# Altium schematic symbol library RC0402.SchLib: 789 symbols (part 2 of 11)
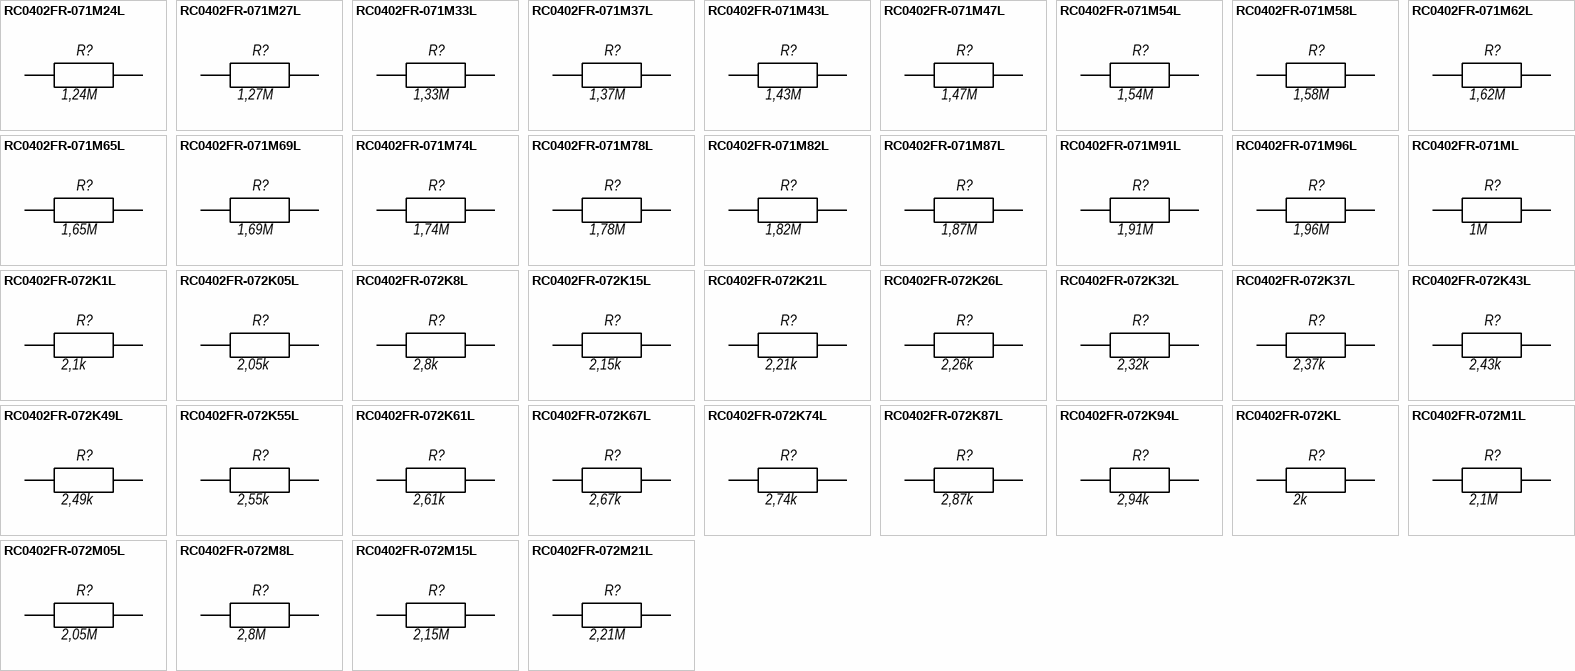
[diagram p20: symbols RC0402FR-071M24L to RC0402FR-072M21L]

## RC0402FR-072M8L
designator R?, comment 2,8M
RC0402FR-072M8L 0402 2.8 MOhm ±1% 1/16W 0402 SMD -55C...+155C; Manufacturer: Yageo; BOM2: 2,8 МОм ±1%, 1/16 Вт, SMD 0402, RC0402FR-072M8L; ValueBOM: RC0402FR-072M8L   Yageo                            (2,8 МОм ±1%, 1/16 Вт, SMD 0402, RC0402FR-072M8L); Value: 2,8M; Part Number: RC0402FR-072M8L; Package: 0402; BOM1: 2.8 MOhm ±1% 1/16W 0402 SMD
footprint RESC_0402_1005L (Chip Resistor, Body 1.1x0.5mm, IPC High Density)
footprint RESC_0402_1005M (Chip Resistor, Body 1.1x0.5mm, IPC Low Density)
footprint RESC_0402_1005N (Chip Resistor, Body 1.1x0.5mm, IPC Medium Density)
pins: 1, 2

## RC0402FR-072M15L
designator R?, comment 2,15M
RC0402FR-072M15L 0402 2.15 MOhm ±1% 1/16W 0402 SMD -55C...+155C; Manufacturer: Yageo; BOM2: 2,15 МОм ±1%, 1/16 Вт, SMD 0402, RC0402FR-072M15L; ValueBOM: RC0402FR-072M15L   Yageo                            (2,15 МОм ±1%, 1/16 Вт, SMD 0402, RC0402FR-072M15L); Value: 2,15M; Part Number: RC0402FR-072M15L; Package: 0402; BOM1: 2.15 MOhm ±1% 1/16W 0402 SMD
footprint RESC_0402_1005L (Chip Resistor, Body 1.1x0.5mm, IPC High Density)
footprint RESC_0402_1005M (Chip Resistor, Body 1.1x0.5mm, IPC Low Density)
footprint RESC_0402_1005N (Chip Resistor, Body 1.1x0.5mm, IPC Medium Density)
pins: 1, 2

## RC0402FR-072M21L
designator R?, comment 2,21M
RC0402FR-072M21L 0402 2.21 MOhm ±1% 1/16W 0402 SMD -55C...+155C; Manufacturer: Yageo; BOM2: 2,21 МОм ±1%, 1/16 Вт, SMD 0402, RC0402FR-072M21L; ValueBOM: RC0402FR-072M21L   Yageo                            (2,21 МОм ±1%, 1/16 Вт, SMD 0402, RC0402FR-072M21L); Value: 2,21M; Part Number: RC0402FR-072M21L; Package: 0402; BOM1: 2.21 MOhm ±1% 1/16W 0402 SMD
footprint RESC_0402_1005L (Chip Resistor, Body 1.1x0.5mm, IPC High Density)
footprint RESC_0402_1005M (Chip Resistor, Body 1.1x0.5mm, IPC Low Density)
footprint RESC_0402_1005N (Chip Resistor, Body 1.1x0.5mm, IPC Medium Density)
pins: 1, 2

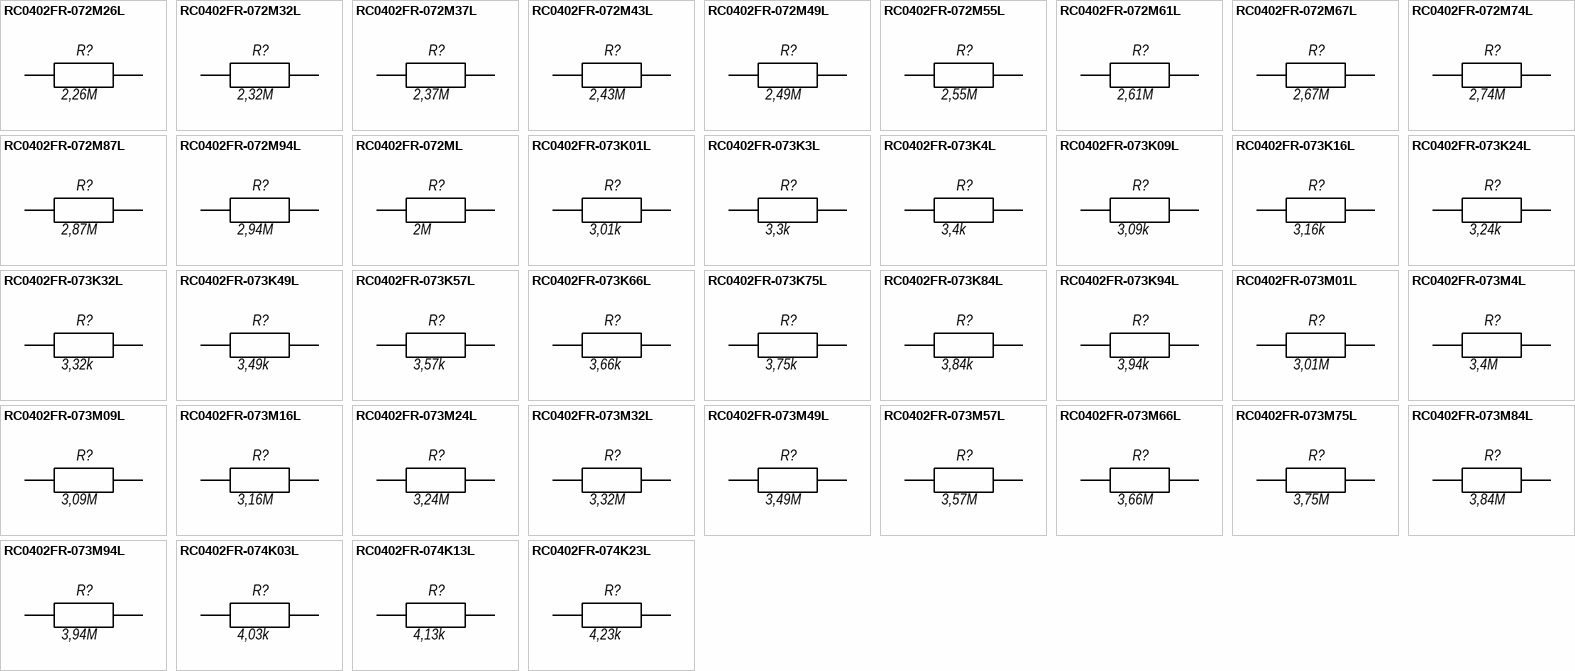
[diagram p2: symbols RC0402FR-072M26L to RC0402FR-074K23L]

## RC0402FR-072M26L
designator R?, comment 2,26M
RC0402FR-072M26L 0402 2.26 MOhm ±1% 1/16W 0402 SMD -55C...+155C; Manufacturer: Yageo; BOM2: 2,26 МОм ±1%, 1/16 Вт, SMD 0402, RC0402FR-072M26L; ValueBOM: RC0402FR-072M26L   Yageo                            (2,26 МОм ±1%, 1/16 Вт, SMD 0402, RC0402FR-072M26L); Value: 2,26M; Part Number: RC0402FR-072M26L; Package: 0402; BOM1: 2.26 MOhm ±1% 1/16W 0402 SMD
footprint RESC_0402_1005L (Chip Resistor, Body 1.1x0.5mm, IPC High Density)
footprint RESC_0402_1005M (Chip Resistor, Body 1.1x0.5mm, IPC Low Density)
footprint RESC_0402_1005N (Chip Resistor, Body 1.1x0.5mm, IPC Medium Density)
pins: 1, 2

## RC0402FR-072M32L
designator R?, comment 2,32M
RC0402FR-072M32L 0402 2.32 MOhm ±1% 1/16W 0402 SMD -55C...+155C; Manufacturer: Yageo; BOM2: 2,32 МОм ±1%, 1/16 Вт, SMD 0402, RC0402FR-072M32L; ValueBOM: RC0402FR-072M32L   Yageo                            (2,32 МОм ±1%, 1/16 Вт, SMD 0402, RC0402FR-072M32L); Value: 2,32M; Part Number: RC0402FR-072M32L; Package: 0402; BOM1: 2.32 MOhm ±1% 1/16W 0402 SMD
footprint RESC_0402_1005L (Chip Resistor, Body 1.1x0.5mm, IPC High Density)
footprint RESC_0402_1005M (Chip Resistor, Body 1.1x0.5mm, IPC Low Density)
footprint RESC_0402_1005N (Chip Resistor, Body 1.1x0.5mm, IPC Medium Density)
pins: 1, 2

## RC0402FR-072M37L
designator R?, comment 2,37M
RC0402FR-072M37L 0402 2.37 MOhm ±1% 1/16W 0402 SMD -55C...+155C; Manufacturer: Yageo; BOM2: 2,37 МОм ±1%, 1/16 Вт, SMD 0402, RC0402FR-072M37L; ValueBOM: RC0402FR-072M37L   Yageo                            (2,37 МОм ±1%, 1/16 Вт, SMD 0402, RC0402FR-072M37L); Value: 2,37M; Part Number: RC0402FR-072M37L; Package: 0402; BOM1: 2.37 MOhm ±1% 1/16W 0402 SMD
footprint RESC_0402_1005L (Chip Resistor, Body 1.1x0.5mm, IPC High Density)
footprint RESC_0402_1005M (Chip Resistor, Body 1.1x0.5mm, IPC Low Density)
footprint RESC_0402_1005N (Chip Resistor, Body 1.1x0.5mm, IPC Medium Density)
pins: 1, 2

## RC0402FR-072M43L
designator R?, comment 2,43M
RC0402FR-072M43L 0402 2.43 MOhm ±1% 1/16W 0402 SMD -55C...+155C; Manufacturer: Yageo; BOM2: 2,43 МОм ±1%, 1/16 Вт, SMD 0402, RC0402FR-072M43L; ValueBOM: RC0402FR-072M43L   Yageo                            (2,43 МОм ±1%, 1/16 Вт, SMD 0402, RC0402FR-072M43L); Value: 2,43M; Part Number: RC0402FR-072M43L; Package: 0402; BOM1: 2.43 MOhm ±1% 1/16W 0402 SMD
footprint RESC_0402_1005L (Chip Resistor, Body 1.1x0.5mm, IPC High Density)
footprint RESC_0402_1005M (Chip Resistor, Body 1.1x0.5mm, IPC Low Density)
footprint RESC_0402_1005N (Chip Resistor, Body 1.1x0.5mm, IPC Medium Density)
pins: 1, 2

## RC0402FR-072M49L
designator R?, comment 2,49M
RC0402FR-072M49L 0402 2.49 MOhm ±1% 1/16W 0402 SMD -55C...+155C; Manufacturer: Yageo; BOM2: 2,49 МОм ±1%, 1/16 Вт, SMD 0402, RC0402FR-072M49L; ValueBOM: RC0402FR-072M49L   Yageo                            (2,49 МОм ±1%, 1/16 Вт, SMD 0402, RC0402FR-072M49L); Value: 2,49M; Part Number: RC0402FR-072M49L; Package: 0402; BOM1: 2.49 MOhm ±1% 1/16W 0402 SMD
footprint RESC_0402_1005L (Chip Resistor, Body 1.1x0.5mm, IPC High Density)
footprint RESC_0402_1005M (Chip Resistor, Body 1.1x0.5mm, IPC Low Density)
footprint RESC_0402_1005N (Chip Resistor, Body 1.1x0.5mm, IPC Medium Density)
pins: 1, 2

## RC0402FR-072M55L
designator R?, comment 2,55M
RC0402FR-072M55L 0402 2.55 MOhm ±1% 1/16W 0402 SMD -55C...+155C; Manufacturer: Yageo; BOM2: 2,55 МОм ±1%, 1/16 Вт, SMD 0402, RC0402FR-072M55L; ValueBOM: RC0402FR-072M55L   Yageo                            (2,55 МОм ±1%, 1/16 Вт, SMD 0402, RC0402FR-072M55L); Value: 2,55M; Part Number: RC0402FR-072M55L; Package: 0402; BOM1: 2.55 MOhm ±1% 1/16W 0402 SMD
footprint RESC_0402_1005L (Chip Resistor, Body 1.1x0.5mm, IPC High Density)
footprint RESC_0402_1005M (Chip Resistor, Body 1.1x0.5mm, IPC Low Density)
footprint RESC_0402_1005N (Chip Resistor, Body 1.1x0.5mm, IPC Medium Density)
pins: 1, 2

## RC0402FR-072M61L
designator R?, comment 2,61M
RC0402FR-072M61L 0402 2.61 MOhm ±1% 1/16W 0402 SMD -55C...+155C; Manufacturer: Yageo; BOM2: 2,61 МОм ±1%, 1/16 Вт, SMD 0402, RC0402FR-072M61L; ValueBOM: RC0402FR-072M61L   Yageo                            (2,61 МОм ±1%, 1/16 Вт, SMD 0402, RC0402FR-072M61L); Value: 2,61M; Part Number: RC0402FR-072M61L; Package: 0402; BOM1: 2.61 MOhm ±1% 1/16W 0402 SMD
footprint RESC_0402_1005L (Chip Resistor, Body 1.1x0.5mm, IPC High Density)
footprint RESC_0402_1005M (Chip Resistor, Body 1.1x0.5mm, IPC Low Density)
footprint RESC_0402_1005N (Chip Resistor, Body 1.1x0.5mm, IPC Medium Density)
pins: 1, 2

## RC0402FR-072M67L
designator R?, comment 2,67M
RC0402FR-072M67L 0402 2.67 MOhm ±1% 1/16W 0402 SMD -55C...+155C; Manufacturer: Yageo; BOM2: 2,67 МОм ±1%, 1/16 Вт, SMD 0402, RC0402FR-072M67L; ValueBOM: RC0402FR-072M67L   Yageo                            (2,67 МОм ±1%, 1/16 Вт, SMD 0402, RC0402FR-072M67L); Value: 2,67M; Part Number: RC0402FR-072M67L; Package: 0402; BOM1: 2.67 MOhm ±1% 1/16W 0402 SMD
footprint RESC_0402_1005L (Chip Resistor, Body 1.1x0.5mm, IPC High Density)
footprint RESC_0402_1005M (Chip Resistor, Body 1.1x0.5mm, IPC Low Density)
footprint RESC_0402_1005N (Chip Resistor, Body 1.1x0.5mm, IPC Medium Density)
pins: 1, 2

## RC0402FR-072M74L
designator R?, comment 2,74M
RC0402FR-072M74L 0402 2.74 MOhm ±1% 1/16W 0402 SMD -55C...+155C; Manufacturer: Yageo; BOM2: 2,74 МОм ±1%, 1/16 Вт, SMD 0402, RC0402FR-072M74L; ValueBOM: RC0402FR-072M74L   Yageo                            (2,74 МОм ±1%, 1/16 Вт, SMD 0402, RC0402FR-072M74L); Value: 2,74M; Part Number: RC0402FR-072M74L; Package: 0402; BOM1: 2.74 MOhm ±1% 1/16W 0402 SMD
footprint RESC_0402_1005L (Chip Resistor, Body 1.1x0.5mm, IPC High Density)
footprint RESC_0402_1005M (Chip Resistor, Body 1.1x0.5mm, IPC Low Density)
footprint RESC_0402_1005N (Chip Resistor, Body 1.1x0.5mm, IPC Medium Density)
pins: 1, 2

## RC0402FR-072M87L
designator R?, comment 2,87M
RC0402FR-072M87L 0402 2.87 MOhm ±1% 1/16W 0402 SMD -55C...+155C; Manufacturer: Yageo; BOM2: 2,87 МОм ±1%, 1/16 Вт, SMD 0402, RC0402FR-072M87L; ValueBOM: RC0402FR-072M87L   Yageo                            (2,87 МОм ±1%, 1/16 Вт, SMD 0402, RC0402FR-072M87L); Value: 2,87M; Part Number: RC0402FR-072M87L; Package: 0402; BOM1: 2.87 MOhm ±1% 1/16W 0402 SMD
footprint RESC_0402_1005L (Chip Resistor, Body 1.1x0.5mm, IPC High Density)
footprint RESC_0402_1005M (Chip Resistor, Body 1.1x0.5mm, IPC Low Density)
footprint RESC_0402_1005N (Chip Resistor, Body 1.1x0.5mm, IPC Medium Density)
pins: 1, 2

## RC0402FR-072M94L
designator R?, comment 2,94M
RC0402FR-072M94L 0402 2.94 MOhm ±1% 1/16W 0402 SMD -55C...+155C; Manufacturer: Yageo; BOM2: 2,94 МОм ±1%, 1/16 Вт, SMD 0402, RC0402FR-072M94L; ValueBOM: RC0402FR-072M94L   Yageo                            (2,94 МОм ±1%, 1/16 Вт, SMD 0402, RC0402FR-072M94L); Value: 2,94M; Part Number: RC0402FR-072M94L; Package: 0402; BOM1: 2.94 MOhm ±1% 1/16W 0402 SMD
footprint RESC_0402_1005L (Chip Resistor, Body 1.1x0.5mm, IPC High Density)
footprint RESC_0402_1005M (Chip Resistor, Body 1.1x0.5mm, IPC Low Density)
footprint RESC_0402_1005N (Chip Resistor, Body 1.1x0.5mm, IPC Medium Density)
pins: 1, 2

## RC0402FR-072ML
designator R?, comment 2M
RC0402FR-072ML 0402 2 MOhm ±1% 1/16W 0402 SMD -55C...+155C; Manufacturer: Yageo; BOM2: 2 MОм ±1%, 1/16 Вт, SMD 0402, RC0402FR-072ML; ValueBOM: RC0402FR-072ML   Yageo                            (2 MОм ±1%, 1/16 Вт, SMD 0402, RC0402FR-072ML); Value: 2M; Part Number: RC0402FR-072ML; Package: 0402; BOM1: 2 MOhm ±1% 1/16W 0402 SMD
footprint RESC_0402_1005L (Chip Resistor, Body 1.1x0.5mm, IPC High Density)
footprint RESC_0402_1005M (Chip Resistor, Body 1.1x0.5mm, IPC Low Density)
footprint RESC_0402_1005N (Chip Resistor, Body 1.1x0.5mm, IPC Medium Density)
pins: 1, 2

## RC0402FR-073K01L
designator R?, comment 3,01k
RC0402FR-073K01L 0402 3.01 kOhm ±1% 1/16W 0402 SMD -55C...+155C; Manufacturer: Yageo; BOM2: 3,01 кОм ±1%, 1/16 Вт, SMD 0402, RC0402FR-073K01L; ValueBOM: RC0402FR-073K01L   Yageo                            (3,01 кОм ±1%, 1/16 Вт, SMD 0402, RC0402FR-073K01L); Value: 3,01k; Part Number: RC0402FR-073K01L; Package: 0402; BOM1: 3.01 kOhm ±1% 1/16W 0402 SMD
footprint RESC_0402_1005L (Chip Resistor, Body 1.1x0.5mm, IPC High Density)
footprint RESC_0402_1005M (Chip Resistor, Body 1.1x0.5mm, IPC Low Density)
footprint RESC_0402_1005N (Chip Resistor, Body 1.1x0.5mm, IPC Medium Density)
pins: 1, 2

## RC0402FR-073K3L
designator R?, comment 3,3k
RC0402FR-073K3L 0805 3.3 kOhm ±1% 1/16W -55C...+155C; Manufacturer: Yageo; BOM1: 3.3 kOhm ±1% 1/16W 0402 SMD; BOM2: 3,3 кОм ±1%, 1/16 Вт, SMD 0402, RC0402FR-073K3L; ValueBOM: RC0402FR-073K3L   Yageo                            (3,3 кОм ±1%, 1/16 Вт, SMD 0402, RC0402FR-073K3L); Value: 3,3k; Part Number: RC0402FR-073K3L; Package: 0402
footprint RESC_0402_1005L (Chip Resistor, Body 1.1x0.5mm, IPC High Density)
footprint RESC_0402_1005M (Chip Resistor, Body 1.1x0.5mm, IPC Low Density)
footprint RESC_0402_1005N (Chip Resistor, Body 1.1x0.5mm, IPC Medium Density)
pins: 1, 2

## RC0402FR-073K4L
designator R?, comment 3,4k
RC0402FR-073K4L 0402 3.4 kOhm ±1% 1/16W 0402 SMD -55C...+155C; Manufacturer: Yageo; BOM2: 3,4 кОм ±1%, 1/16 Вт, SMD 0402, RC0402FR-073K4L; ValueBOM: RC0402FR-073K4L   Yageo                            (3,4 кОм ±1%, 1/16 Вт, SMD 0402, RC0402FR-073K4L); Value: 3,4k; Part Number: RC0402FR-073K4L; Package: 0402; BOM1: 3.4 kOhm ±1% 1/16W 0402 SMD
footprint RESC_0402_1005L (Chip Resistor, Body 1.1x0.5mm, IPC High Density)
footprint RESC_0402_1005M (Chip Resistor, Body 1.1x0.5mm, IPC Low Density)
footprint RESC_0402_1005N (Chip Resistor, Body 1.1x0.5mm, IPC Medium Density)
pins: 1, 2

## RC0402FR-073K09L
designator R?, comment 3,09k
RC0402FR-073K09L 0402 3.09 kOhm ±1% 1/16W 0402 SMD -55C...+155C; Manufacturer: Yageo; BOM2: 3,09 кОм ±1%, 1/16 Вт, SMD 0402, RC0402FR-073K09L; ValueBOM: RC0402FR-073K09L   Yageo                            (3,09 кОм ±1%, 1/16 Вт, SMD 0402, RC0402FR-073K09L); Value: 3,09k; Part Number: RC0402FR-073K09L; Package: 0402; BOM1: 3.09 kOhm ±1% 1/16W 0402 SMD
footprint RESC_0402_1005L (Chip Resistor, Body 1.1x0.5mm, IPC High Density)
footprint RESC_0402_1005M (Chip Resistor, Body 1.1x0.5mm, IPC Low Density)
footprint RESC_0402_1005N (Chip Resistor, Body 1.1x0.5mm, IPC Medium Density)
pins: 1, 2

## RC0402FR-073K16L
designator R?, comment 3,16k
RC0402FR-073K16L 0402 3.16 kOhm ±1% 1/16W 0402 SMD -55C...+155C; Manufacturer: Yageo; BOM2: 3,16 кОм ±1%, 1/16 Вт, SMD 0402, RC0402FR-073K16L; ValueBOM: RC0402FR-073K16L   Yageo                            (3,16 кОм ±1%, 1/16 Вт, SMD 0402, RC0402FR-073K16L); Value: 3,16k; Part Number: RC0402FR-073K16L; Package: 0402; BOM1: 3.16 kOhm ±1% 1/16W 0402 SMD
footprint RESC_0402_1005L (Chip Resistor, Body 1.1x0.5mm, IPC High Density)
footprint RESC_0402_1005M (Chip Resistor, Body 1.1x0.5mm, IPC Low Density)
footprint RESC_0402_1005N (Chip Resistor, Body 1.1x0.5mm, IPC Medium Density)
pins: 1, 2

## RC0402FR-073K24L
designator R?, comment 3,24k
RC0402FR-073K24L 0402 3.24 kOhm ±1% 1/16W 0402 SMD -55C...+155C; Manufacturer: Yageo; BOM2: 3,24 кОм ±1%, 1/16 Вт, SMD 0402, RC0402FR-073K24L; ValueBOM: RC0402FR-073K24L   Yageo                            (3,24 кОм ±1%, 1/16 Вт, SMD 0402, RC0402FR-073K24L); Value: 3,24k; Part Number: RC0402FR-073K24L; Package: 0402; BOM1: 3.24 kOhm ±1% 1/16W 0402 SMD
footprint RESC_0402_1005L (Chip Resistor, Body 1.1x0.5mm, IPC High Density)
footprint RESC_0402_1005M (Chip Resistor, Body 1.1x0.5mm, IPC Low Density)
footprint RESC_0402_1005N (Chip Resistor, Body 1.1x0.5mm, IPC Medium Density)
pins: 1, 2

## RC0402FR-073K32L
designator R?, comment 3,32k
RC0402FR-073K32L 0402 3.32 kOhm ±1% 1/16W 0402 SMD -55C...+155C; Manufacturer: Yageo; BOM2: 3,32 кОм ±1%, 1/16 Вт, SMD 0402, RC0402FR-073K32L; ValueBOM: RC0402FR-073K32L   Yageo                            (3,32 кОм ±1%, 1/16 Вт, SMD 0402, RC0402FR-073K32L); Value: 3,32k; Part Number: RC0402FR-073K32L; Package: 0402; BOM1: 3.32 kOhm ±1% 1/16W 0402 SMD
footprint RESC_0402_1005L (Chip Resistor, Body 1.1x0.5mm, IPC High Density)
footprint RESC_0402_1005M (Chip Resistor, Body 1.1x0.5mm, IPC Low Density)
footprint RESC_0402_1005N (Chip Resistor, Body 1.1x0.5mm, IPC Medium Density)
pins: 1, 2

## RC0402FR-073K49L
designator R?, comment 3,49k
RC0402FR-073K49L 0402 3.49 kOhm ±1% 1/16W 0402 SMD -55C...+155C; Manufacturer: Yageo; BOM2: 3,49 кОм ±1%, 1/16 Вт, SMD 0402, RC0402FR-073K49L; ValueBOM: RC0402FR-073K49L   Yageo                            (3,49 кОм ±1%, 1/16 Вт, SMD 0402, RC0402FR-073K49L); Value: 3,49k; Part Number: RC0402FR-073K49L; Package: 0402; BOM1: 3.49 kOhm ±1% 1/16W 0402 SMD
footprint RESC_0402_1005L (Chip Resistor, Body 1.1x0.5mm, IPC High Density)
footprint RESC_0402_1005M (Chip Resistor, Body 1.1x0.5mm, IPC Low Density)
footprint RESC_0402_1005N (Chip Resistor, Body 1.1x0.5mm, IPC Medium Density)
pins: 1, 2

## RC0402FR-073K57L
designator R?, comment 3,57k
RC0402FR-073K57L 0402 3.57 kOhm ±1% 1/16W 0402 SMD -55C...+155C; Manufacturer: Yageo; BOM2: 3,57 кОм ±1%, 1/16 Вт, SMD 0402, RC0402FR-073K57L; ValueBOM: RC0402FR-073K57L   Yageo                            (3,57 кОм ±1%, 1/16 Вт, SMD 0402, RC0402FR-073K57L); Value: 3,57k; Part Number: RC0402FR-073K57L; Package: 0402; BOM1: 3.57 kOhm ±1% 1/16W 0402 SMD
footprint RESC_0402_1005L (Chip Resistor, Body 1.1x0.5mm, IPC High Density)
footprint RESC_0402_1005M (Chip Resistor, Body 1.1x0.5mm, IPC Low Density)
footprint RESC_0402_1005N (Chip Resistor, Body 1.1x0.5mm, IPC Medium Density)
pins: 1, 2

## RC0402FR-073K66L
designator R?, comment 3,66k
RC0402FR-073K66L 0402 3.66 kOhm ±1% 1/16W 0402 SMD -55C...+155C; Manufacturer: Yageo; BOM2: 3,66 кОм ±1%, 1/16 Вт, SMD 0402, RC0402FR-073K66L; ValueBOM: RC0402FR-073K66L   Yageo                            (3,66 кОм ±1%, 1/16 Вт, SMD 0402, RC0402FR-073K66L); Value: 3,66k; Part Number: RC0402FR-073K66L; Package: 0402; BOM1: 3.66 kOhm ±1% 1/16W 0402 SMD
footprint RESC_0402_1005L (Chip Resistor, Body 1.1x0.5mm, IPC High Density)
footprint RESC_0402_1005M (Chip Resistor, Body 1.1x0.5mm, IPC Low Density)
footprint RESC_0402_1005N (Chip Resistor, Body 1.1x0.5mm, IPC Medium Density)
pins: 1, 2

## RC0402FR-073K75L
designator R?, comment 3,75k
RC0402FR-073K75L 0402 3.75 kOhm ±1% 1/16W 0402 SMD -55C...+155C; Manufacturer: Yageo; BOM2: 3,75 кОм ±1%, 1/16 Вт, SMD 0402, RC0402FR-073K75L; ValueBOM: RC0402FR-073K75L   Yageo                            (3,75 кОм ±1%, 1/16 Вт, SMD 0402, RC0402FR-073K75L); Value: 3,75k; Part Number: RC0402FR-073K75L; Package: 0402; BOM1: 3.75 kOhm ±1% 1/16W 0402 SMD
footprint RESC_0402_1005L (Chip Resistor, Body 1.1x0.5mm, IPC High Density)
footprint RESC_0402_1005M (Chip Resistor, Body 1.1x0.5mm, IPC Low Density)
footprint RESC_0402_1005N (Chip Resistor, Body 1.1x0.5mm, IPC Medium Density)
pins: 1, 2

## RC0402FR-073K84L
designator R?, comment 3,84k
RC0402FR-073K84L 0402 3.84 kOhm ±1% 1/16W 0402 SMD -55C...+155C; Manufacturer: Yageo; BOM2: 3,84 кОм ±1%, 1/16 Вт, SMD 0402, RC0402FR-073K84L; ValueBOM: RC0402FR-073K84L   Yageo                            (3,84 кОм ±1%, 1/16 Вт, SMD 0402, RC0402FR-073K84L); Value: 3,84k; Part Number: RC0402FR-073K84L; Package: 0402; BOM1: 3.84 kOhm ±1% 1/16W 0402 SMD
footprint RESC_0402_1005L (Chip Resistor, Body 1.1x0.5mm, IPC High Density)
footprint RESC_0402_1005M (Chip Resistor, Body 1.1x0.5mm, IPC Low Density)
footprint RESC_0402_1005N (Chip Resistor, Body 1.1x0.5mm, IPC Medium Density)
pins: 1, 2

## RC0402FR-073K94L
designator R?, comment 3,94k
RC0402FR-073K94L 0402 3.94 kOhm ±1% 1/16W 0402 SMD -55C...+155C; Manufacturer: Yageo; BOM2: 3,94 кОм ±1%, 1/16 Вт, SMD 0402, RC0402FR-073K94L; ValueBOM: RC0402FR-073K94L   Yageo                            (3,94 кОм ±1%, 1/16 Вт, SMD 0402, RC0402FR-073K94L); Value: 3,94k; Part Number: RC0402FR-073K94L; Package: 0402; BOM1: 3.94 kOhm ±1% 1/16W 0402 SMD
footprint RESC_0402_1005L (Chip Resistor, Body 1.1x0.5mm, IPC High Density)
footprint RESC_0402_1005M (Chip Resistor, Body 1.1x0.5mm, IPC Low Density)
footprint RESC_0402_1005N (Chip Resistor, Body 1.1x0.5mm, IPC Medium Density)
pins: 1, 2

## RC0402FR-073M01L
designator R?, comment 3,01M
RC0402FR-073M01L 0402 3.01 MOhm ±1% 1/16W 0402 SMD -55C...+155C; Manufacturer: Yageo; BOM2: 3,01 МОм ±1%, 1/16 Вт, SMD 0402, RC0402FR-073M01L; ValueBOM: RC0402FR-073M01L   Yageo                            (3,01 МОм ±1%, 1/16 Вт, SMD 0402, RC0402FR-073M01L); Value: 3,01M; Part Number: RC0402FR-073M01L; Package: 0402; BOM1: 3.01 MOhm ±1% 1/16W 0402 SMD
footprint RESC_0402_1005L (Chip Resistor, Body 1.1x0.5mm, IPC High Density)
footprint RESC_0402_1005M (Chip Resistor, Body 1.1x0.5mm, IPC Low Density)
footprint RESC_0402_1005N (Chip Resistor, Body 1.1x0.5mm, IPC Medium Density)
pins: 1, 2

## RC0402FR-073M4L
designator R?, comment 3,4M
RC0402FR-073M4L 0402 3.4 MOhm ±1% 1/16W 0402 SMD -55C...+155C; Manufacturer: Yageo; BOM2: 3,4 МОм ±1%, 1/16 Вт, SMD 0402, RC0402FR-073M4L; ValueBOM: RC0402FR-073M4L   Yageo                            (3,4 МОм ±1%, 1/16 Вт, SMD 0402, RC0402FR-073M4L); Value: 3,4M; Part Number: RC0402FR-073M4L; Package: 0402; BOM1: 3.4 MOhm ±1% 1/16W 0402 SMD
footprint RESC_0402_1005L (Chip Resistor, Body 1.1x0.5mm, IPC High Density)
footprint RESC_0402_1005M (Chip Resistor, Body 1.1x0.5mm, IPC Low Density)
footprint RESC_0402_1005N (Chip Resistor, Body 1.1x0.5mm, IPC Medium Density)
pins: 1, 2

## RC0402FR-073M09L
designator R?, comment 3,09M
RC0402FR-073M09L 0402 3.09 MOhm ±1% 1/16W 0402 SMD -55C...+155C; Manufacturer: Yageo; BOM2: 3,09 МОм ±1%, 1/16 Вт, SMD 0402, RC0402FR-073M09L; ValueBOM: RC0402FR-073M09L   Yageo                            (3,09 МОм ±1%, 1/16 Вт, SMD 0402, RC0402FR-073M09L); Value: 3,09M; Part Number: RC0402FR-073M09L; Package: 0402; BOM1: 3.09 MOhm ±1% 1/16W 0402 SMD
footprint RESC_0402_1005L (Chip Resistor, Body 1.1x0.5mm, IPC High Density)
footprint RESC_0402_1005M (Chip Resistor, Body 1.1x0.5mm, IPC Low Density)
footprint RESC_0402_1005N (Chip Resistor, Body 1.1x0.5mm, IPC Medium Density)
pins: 1, 2

## RC0402FR-073M16L
designator R?, comment 3,16M
RC0402FR-073M16L 0402 3.16 MOhm ±1% 1/16W 0402 SMD -55C...+155C; Manufacturer: Yageo; BOM2: 3,16 МОм ±1%, 1/16 Вт, SMD 0402, RC0402FR-073M16L; ValueBOM: RC0402FR-073M16L   Yageo                            (3,16 МОм ±1%, 1/16 Вт, SMD 0402, RC0402FR-073M16L); Value: 3,16M; Part Number: RC0402FR-073M16L; Package: 0402; BOM1: 3.16 MOhm ±1% 1/16W 0402 SMD
footprint RESC_0402_1005L (Chip Resistor, Body 1.1x0.5mm, IPC High Density)
footprint RESC_0402_1005M (Chip Resistor, Body 1.1x0.5mm, IPC Low Density)
footprint RESC_0402_1005N (Chip Resistor, Body 1.1x0.5mm, IPC Medium Density)
pins: 1, 2

## RC0402FR-073M24L
designator R?, comment 3,24M
RC0402FR-073M24L 0402 3.24 MOhm ±1% 1/16W 0402 SMD -55C...+155C; Manufacturer: Yageo; BOM2: 3,24 МОм ±1%, 1/16 Вт, SMD 0402, RC0402FR-073M24L; ValueBOM: RC0402FR-073M24L   Yageo                            (3,24 МОм ±1%, 1/16 Вт, SMD 0402, RC0402FR-073M24L); Value: 3,24M; Part Number: RC0402FR-073M24L; Package: 0402; BOM1: 3.24 MOhm ±1% 1/16W 0402 SMD
footprint RESC_0402_1005L (Chip Resistor, Body 1.1x0.5mm, IPC High Density)
footprint RESC_0402_1005M (Chip Resistor, Body 1.1x0.5mm, IPC Low Density)
footprint RESC_0402_1005N (Chip Resistor, Body 1.1x0.5mm, IPC Medium Density)
pins: 1, 2

## RC0402FR-073M32L
designator R?, comment 3,32M
RC0402FR-073M32L 0402 3.32 MOhm ±1% 1/16W 0402 SMD -55C...+155C; Manufacturer: Yageo; BOM2: 3,32 МОм ±1%, 1/16 Вт, SMD 0402, RC0402FR-073M32L; ValueBOM: RC0402FR-073M32L   Yageo                            (3,32 МОм ±1%, 1/16 Вт, SMD 0402, RC0402FR-073M32L); Value: 3,32M; Part Number: RC0402FR-073M32L; Package: 0402; BOM1: 3.32 MOhm ±1% 1/16W 0402 SMD
footprint RESC_0402_1005L (Chip Resistor, Body 1.1x0.5mm, IPC High Density)
footprint RESC_0402_1005M (Chip Resistor, Body 1.1x0.5mm, IPC Low Density)
footprint RESC_0402_1005N (Chip Resistor, Body 1.1x0.5mm, IPC Medium Density)
pins: 1, 2

## RC0402FR-073M49L
designator R?, comment 3,49M
RC0402FR-073M49L 0402 3.49 MOhm ±1% 1/16W 0402 SMD -55C...+155C; Manufacturer: Yageo; BOM2: 3,49 МОм ±1%, 1/16 Вт, SMD 0402, RC0402FR-073M49L; ValueBOM: RC0402FR-073M49L   Yageo                            (3,49 МОм ±1%, 1/16 Вт, SMD 0402, RC0402FR-073M49L); Value: 3,49M; Part Number: RC0402FR-073M49L; Package: 0402; BOM1: 3.49 MOhm ±1% 1/16W 0402 SMD
footprint RESC_0402_1005L (Chip Resistor, Body 1.1x0.5mm, IPC High Density)
footprint RESC_0402_1005M (Chip Resistor, Body 1.1x0.5mm, IPC Low Density)
footprint RESC_0402_1005N (Chip Resistor, Body 1.1x0.5mm, IPC Medium Density)
pins: 1, 2

## RC0402FR-073M57L
designator R?, comment 3,57M
RC0402FR-073M57L 0402 3.57 MOhm ±1% 1/16W 0402 SMD -55C...+155C; Manufacturer: Yageo; BOM2: 3,57 МОм ±1%, 1/16 Вт, SMD 0402, RC0402FR-073M57L; ValueBOM: RC0402FR-073M57L   Yageo                            (3,57 МОм ±1%, 1/16 Вт, SMD 0402, RC0402FR-073M57L); Value: 3,57M; Part Number: RC0402FR-073M57L; Package: 0402; BOM1: 3.57 MOhm ±1% 1/16W 0402 SMD
footprint RESC_0402_1005L (Chip Resistor, Body 1.1x0.5mm, IPC High Density)
footprint RESC_0402_1005M (Chip Resistor, Body 1.1x0.5mm, IPC Low Density)
footprint RESC_0402_1005N (Chip Resistor, Body 1.1x0.5mm, IPC Medium Density)
pins: 1, 2

## RC0402FR-073M66L
designator R?, comment 3,66M
RC0402FR-073M66L 0402 3.66 MOhm ±1% 1/16W 0402 SMD -55C...+155C; Manufacturer: Yageo; BOM2: 3,66 МОм ±1%, 1/16 Вт, SMD 0402, RC0402FR-073M66L; ValueBOM: RC0402FR-073M66L   Yageo                            (3,66 МОм ±1%, 1/16 Вт, SMD 0402, RC0402FR-073M66L); Value: 3,66M; Part Number: RC0402FR-073M66L; Package: 0402; BOM1: 3.66 MOhm ±1% 1/16W 0402 SMD
footprint RESC_0402_1005L (Chip Resistor, Body 1.1x0.5mm, IPC High Density)
footprint RESC_0402_1005M (Chip Resistor, Body 1.1x0.5mm, IPC Low Density)
footprint RESC_0402_1005N (Chip Resistor, Body 1.1x0.5mm, IPC Medium Density)
pins: 1, 2

## RC0402FR-073M75L
designator R?, comment 3,75M
RC0402FR-073M75L 0402 3.75 MOhm ±1% 1/16W 0402 SMD -55C...+155C; Manufacturer: Yageo; BOM2: 3,75 МОм ±1%, 1/16 Вт, SMD 0402, RC0402FR-073M75L; ValueBOM: RC0402FR-073M75L   Yageo                            (3,75 МОм ±1%, 1/16 Вт, SMD 0402, RC0402FR-073M75L); Value: 3,75M; Part Number: RC0402FR-073M75L; Package: 0402; BOM1: 3.75 MOhm ±1% 1/16W 0402 SMD
footprint RESC_0402_1005L (Chip Resistor, Body 1.1x0.5mm, IPC High Density)
footprint RESC_0402_1005M (Chip Resistor, Body 1.1x0.5mm, IPC Low Density)
footprint RESC_0402_1005N (Chip Resistor, Body 1.1x0.5mm, IPC Medium Density)
pins: 1, 2

## RC0402FR-073M84L
designator R?, comment 3,84M
RC0402FR-073M84L 0402 3.84 MOhm ±1% 1/16W 0402 SMD -55C...+155C; Manufacturer: Yageo; BOM2: 3,84 МОм ±1%, 1/16 Вт, SMD 0402, RC0402FR-073M84L; ValueBOM: RC0402FR-073M84L   Yageo                            (3,84 МОм ±1%, 1/16 Вт, SMD 0402, RC0402FR-073M84L); Value: 3,84M; Part Number: RC0402FR-073M84L; Package: 0402; BOM1: 3.84 MOhm ±1% 1/16W 0402 SMD
footprint RESC_0402_1005L (Chip Resistor, Body 1.1x0.5mm, IPC High Density)
footprint RESC_0402_1005M (Chip Resistor, Body 1.1x0.5mm, IPC Low Density)
footprint RESC_0402_1005N (Chip Resistor, Body 1.1x0.5mm, IPC Medium Density)
pins: 1, 2

## RC0402FR-073M94L
designator R?, comment 3,94M
RC0402FR-073M94L 0402 3.94 MOhm ±1% 1/16W 0402 SMD -55C...+155C; Manufacturer: Yageo; BOM2: 3,94 МОм ±1%, 1/16 Вт, SMD 0402, RC0402FR-073M94L; ValueBOM: RC0402FR-073M94L   Yageo                            (3,94 МОм ±1%, 1/16 Вт, SMD 0402, RC0402FR-073M94L); Value: 3,94M; Part Number: RC0402FR-073M94L; Package: 0402; BOM1: 3.94 MOhm ±1% 1/16W 0402 SMD
footprint RESC_0402_1005L (Chip Resistor, Body 1.1x0.5mm, IPC High Density)
footprint RESC_0402_1005M (Chip Resistor, Body 1.1x0.5mm, IPC Low Density)
footprint RESC_0402_1005N (Chip Resistor, Body 1.1x0.5mm, IPC Medium Density)
pins: 1, 2

## RC0402FR-074K03L
designator R?, comment 4,03k
RC0402FR-074K03L 0402 4.03 kOhm ±1% 1/16W 0402 SMD -55C...+155C; Manufacturer: Yageo; BOM2: 4,03 кОм ±1%, 1/16 Вт, SMD 0402, RC0402FR-074K03L; ValueBOM: RC0402FR-074K03L   Yageo                            (4,03 кОм ±1%, 1/16 Вт, SMD 0402, RC0402FR-074K03L); Value: 4,03k; Part Number: RC0402FR-074K03L; Package: 0402; BOM1: 4.03 kOhm ±1% 1/16W 0402 SMD
footprint RESC_0402_1005L (Chip Resistor, Body 1.1x0.5mm, IPC High Density)
footprint RESC_0402_1005M (Chip Resistor, Body 1.1x0.5mm, IPC Low Density)
footprint RESC_0402_1005N (Chip Resistor, Body 1.1x0.5mm, IPC Medium Density)
pins: 1, 2

## RC0402FR-074K13L
designator R?, comment 4,13k
RC0402FR-074K13L 0402 4.13 kOhm ±1% 1/16W 0402 SMD -55C...+155C; Manufacturer: Yageo; BOM2: 4,13 кОм ±1%, 1/16 Вт, SMD 0402, RC0402FR-074K13L; ValueBOM: RC0402FR-074K13L   Yageo                            (4,13 кОм ±1%, 1/16 Вт, SMD 0402, RC0402FR-074K13L); Value: 4,13k; Part Number: RC0402FR-074K13L; Package: 0402; BOM1: 4.13 kOhm ±1% 1/16W 0402 SMD
footprint RESC_0402_1005L (Chip Resistor, Body 1.1x0.5mm, IPC High Density)
footprint RESC_0402_1005M (Chip Resistor, Body 1.1x0.5mm, IPC Low Density)
footprint RESC_0402_1005N (Chip Resistor, Body 1.1x0.5mm, IPC Medium Density)
pins: 1, 2

## RC0402FR-074K23L
designator R?, comment 4,23k
RC0402FR-074K23L 0402 4.23 kOhm ±1% 1/16W 0402 SMD -55C...+155C; Manufacturer: Yageo; BOM2: 4,23 кОм ±1%, 1/16 Вт, SMD 0402, RC0402FR-074K23L; ValueBOM: RC0402FR-074K23L   Yageo                            (4,23 кОм ±1%, 1/16 Вт, SMD 0402, RC0402FR-074K23L); Value: 4,23k; Part Number: RC0402FR-074K23L; Package: 0402; BOM1: 4.23 kOhm ±1% 1/16W 0402 SMD
footprint RESC_0402_1005L (Chip Resistor, Body 1.1x0.5mm, IPC High Density)
footprint RESC_0402_1005M (Chip Resistor, Body 1.1x0.5mm, IPC Low Density)
footprint RESC_0402_1005N (Chip Resistor, Body 1.1x0.5mm, IPC Medium Density)
pins: 1, 2

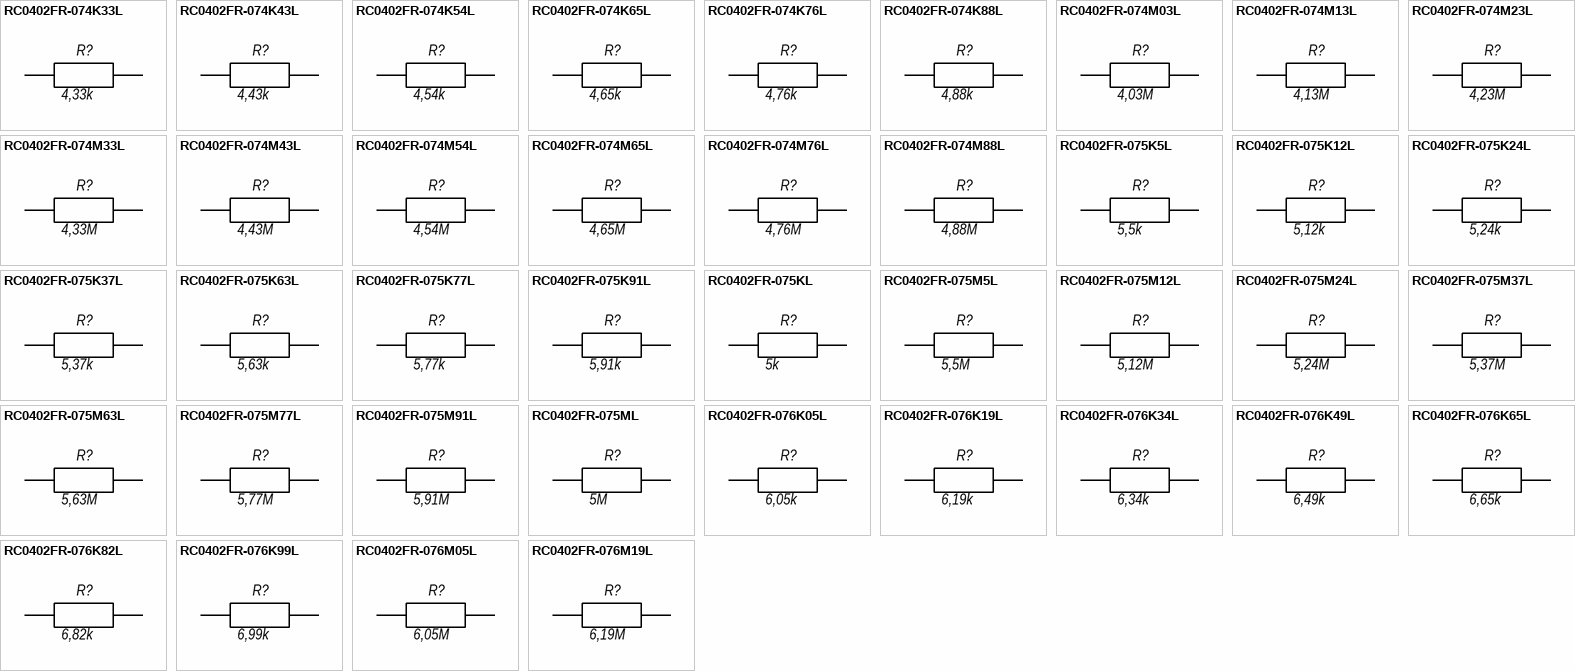
[diagram p3: symbols RC0402FR-074K33L to RC0402FR-076M19L]

## RC0402FR-074K33L
designator R?, comment 4,33k
RC0402FR-074K33L 0402 4.33 kOhm ±1% 1/16W 0402 SMD -55C...+155C; Manufacturer: Yageo; BOM2: 4,33 кОм ±1%, 1/16 Вт, SMD 0402, RC0402FR-074K33L; ValueBOM: RC0402FR-074K33L   Yageo                            (4,33 кОм ±1%, 1/16 Вт, SMD 0402, RC0402FR-074K33L); Value: 4,33k; Part Number: RC0402FR-074K33L; Package: 0402; BOM1: 4.33 kOhm ±1% 1/16W 0402 SMD
footprint RESC_0402_1005L (Chip Resistor, Body 1.1x0.5mm, IPC High Density)
footprint RESC_0402_1005M (Chip Resistor, Body 1.1x0.5mm, IPC Low Density)
footprint RESC_0402_1005N (Chip Resistor, Body 1.1x0.5mm, IPC Medium Density)
pins: 1, 2

## RC0402FR-074K43L
designator R?, comment 4,43k
RC0402FR-074K43L 0402 4.43 kOhm ±1% 1/16W 0402 SMD -55C...+155C; Manufacturer: Yageo; BOM2: 4,43 кОм ±1%, 1/16 Вт, SMD 0402, RC0402FR-074K43L; ValueBOM: RC0402FR-074K43L   Yageo                            (4,43 кОм ±1%, 1/16 Вт, SMD 0402, RC0402FR-074K43L); Value: 4,43k; Part Number: RC0402FR-074K43L; Package: 0402; BOM1: 4.43 kOhm ±1% 1/16W 0402 SMD
footprint RESC_0402_1005L (Chip Resistor, Body 1.1x0.5mm, IPC High Density)
footprint RESC_0402_1005M (Chip Resistor, Body 1.1x0.5mm, IPC Low Density)
footprint RESC_0402_1005N (Chip Resistor, Body 1.1x0.5mm, IPC Medium Density)
pins: 1, 2

## RC0402FR-074K54L
designator R?, comment 4,54k
RC0402FR-074K54L 0402 4.54 kOhm ±1% 1/16W 0402 SMD -55C...+155C; Manufacturer: Yageo; BOM2: 4,54 кОм ±1%, 1/16 Вт, SMD 0402, RC0402FR-074K54L; ValueBOM: RC0402FR-074K54L   Yageo                            (4,54 кОм ±1%, 1/16 Вт, SMD 0402, RC0402FR-074K54L); Value: 4,54k; Part Number: RC0402FR-074K54L; Package: 0402; BOM1: 4.54 kOhm ±1% 1/16W 0402 SMD
footprint RESC_0402_1005L (Chip Resistor, Body 1.1x0.5mm, IPC High Density)
footprint RESC_0402_1005M (Chip Resistor, Body 1.1x0.5mm, IPC Low Density)
footprint RESC_0402_1005N (Chip Resistor, Body 1.1x0.5mm, IPC Medium Density)
pins: 1, 2

## RC0402FR-074K65L
designator R?, comment 4,65k
RC0402FR-074K65L 0402 4.65 kOhm ±1% 1/16W 0402 SMD -55C...+155C; Manufacturer: Yageo; BOM2: 4,65 кОм ±1%, 1/16 Вт, SMD 0402, RC0402FR-074K65L; ValueBOM: RC0402FR-074K65L   Yageo                            (4,65 кОм ±1%, 1/16 Вт, SMD 0402, RC0402FR-074K65L); Value: 4,65k; Part Number: RC0402FR-074K65L; Package: 0402; BOM1: 4.65 kOhm ±1% 1/16W 0402 SMD
footprint RESC_0402_1005L (Chip Resistor, Body 1.1x0.5mm, IPC High Density)
footprint RESC_0402_1005M (Chip Resistor, Body 1.1x0.5mm, IPC Low Density)
footprint RESC_0402_1005N (Chip Resistor, Body 1.1x0.5mm, IPC Medium Density)
pins: 1, 2

## RC0402FR-074K76L
designator R?, comment 4,76k
RC0402FR-074K76L 0402 4.76 kOhm ±1% 1/16W 0402 SMD -55C...+155C; Manufacturer: Yageo; BOM2: 4,76 кОм ±1%, 1/16 Вт, SMD 0402, RC0402FR-074K76L; ValueBOM: RC0402FR-074K76L   Yageo                            (4,76 кОм ±1%, 1/16 Вт, SMD 0402, RC0402FR-074K76L); Value: 4,76k; Part Number: RC0402FR-074K76L; Package: 0402; BOM1: 4.76 kOhm ±1% 1/16W 0402 SMD
footprint RESC_0402_1005L (Chip Resistor, Body 1.1x0.5mm, IPC High Density)
footprint RESC_0402_1005M (Chip Resistor, Body 1.1x0.5mm, IPC Low Density)
footprint RESC_0402_1005N (Chip Resistor, Body 1.1x0.5mm, IPC Medium Density)
pins: 1, 2

## RC0402FR-074K88L
designator R?, comment 4,88k
RC0402FR-074K88L 0402 4.88 kOhm ±1% 1/16W 0402 SMD -55C...+155C; Manufacturer: Yageo; BOM2: 4,88 кОм ±1%, 1/16 Вт, SMD 0402, RC0402FR-074K88L; ValueBOM: RC0402FR-074K88L   Yageo                            (4,88 кОм ±1%, 1/16 Вт, SMD 0402, RC0402FR-074K88L); Value: 4,88k; Part Number: RC0402FR-074K88L; Package: 0402; BOM1: 4.88 kOhm ±1% 1/16W 0402 SMD
footprint RESC_0402_1005L (Chip Resistor, Body 1.1x0.5mm, IPC High Density)
footprint RESC_0402_1005M (Chip Resistor, Body 1.1x0.5mm, IPC Low Density)
footprint RESC_0402_1005N (Chip Resistor, Body 1.1x0.5mm, IPC Medium Density)
pins: 1, 2

## RC0402FR-074M03L
designator R?, comment 4,03M
RC0402FR-074M03L 0402 4.03 MOhm ±1% 1/16W 0402 SMD -55C...+155C; Manufacturer: Yageo; BOM2: 4,03 МОм ±1%, 1/16 Вт, SMD 0402, RC0402FR-074M03L; ValueBOM: RC0402FR-074M03L   Yageo                            (4,03 МОм ±1%, 1/16 Вт, SMD 0402, RC0402FR-074M03L); Value: 4,03M; Part Number: RC0402FR-074M03L; Package: 0402; BOM1: 4.03 MOhm ±1% 1/16W 0402 SMD
footprint RESC_0402_1005L (Chip Resistor, Body 1.1x0.5mm, IPC High Density)
footprint RESC_0402_1005M (Chip Resistor, Body 1.1x0.5mm, IPC Low Density)
footprint RESC_0402_1005N (Chip Resistor, Body 1.1x0.5mm, IPC Medium Density)
pins: 1, 2

## RC0402FR-074M13L
designator R?, comment 4,13M
RC0402FR-074M13L 0402 4.13 MOhm ±1% 1/16W 0402 SMD -55C...+155C; Manufacturer: Yageo; BOM2: 4,13 МОм ±1%, 1/16 Вт, SMD 0402, RC0402FR-074M13L; ValueBOM: RC0402FR-074M13L   Yageo                            (4,13 МОм ±1%, 1/16 Вт, SMD 0402, RC0402FR-074M13L); Value: 4,13M; Part Number: RC0402FR-074M13L; Package: 0402; BOM1: 4.13 MOhm ±1% 1/16W 0402 SMD
footprint RESC_0402_1005L (Chip Resistor, Body 1.1x0.5mm, IPC High Density)
footprint RESC_0402_1005M (Chip Resistor, Body 1.1x0.5mm, IPC Low Density)
footprint RESC_0402_1005N (Chip Resistor, Body 1.1x0.5mm, IPC Medium Density)
pins: 1, 2

## RC0402FR-074M23L
designator R?, comment 4,23M
RC0402FR-074M23L 0402 4.23 MOhm ±1% 1/16W 0402 SMD -55C...+155C; Manufacturer: Yageo; BOM2: 4,23 МОм ±1%, 1/16 Вт, SMD 0402, RC0402FR-074M23L; ValueBOM: RC0402FR-074M23L   Yageo                            (4,23 МОм ±1%, 1/16 Вт, SMD 0402, RC0402FR-074M23L); Value: 4,23M; Part Number: RC0402FR-074M23L; Package: 0402; BOM1: 4.23 MOhm ±1% 1/16W 0402 SMD
footprint RESC_0402_1005L (Chip Resistor, Body 1.1x0.5mm, IPC High Density)
footprint RESC_0402_1005M (Chip Resistor, Body 1.1x0.5mm, IPC Low Density)
footprint RESC_0402_1005N (Chip Resistor, Body 1.1x0.5mm, IPC Medium Density)
pins: 1, 2

## RC0402FR-074M33L
designator R?, comment 4,33M
RC0402FR-074M33L 0402 4.33 MOhm ±1% 1/16W 0402 SMD -55C...+155C; Manufacturer: Yageo; BOM2: 4,33 МОм ±1%, 1/16 Вт, SMD 0402, RC0402FR-074M33L; ValueBOM: RC0402FR-074M33L   Yageo                            (4,33 МОм ±1%, 1/16 Вт, SMD 0402, RC0402FR-074M33L); Value: 4,33M; Part Number: RC0402FR-074M33L; Package: 0402; BOM1: 4.33 MOhm ±1% 1/16W 0402 SMD
footprint RESC_0402_1005L (Chip Resistor, Body 1.1x0.5mm, IPC High Density)
footprint RESC_0402_1005M (Chip Resistor, Body 1.1x0.5mm, IPC Low Density)
footprint RESC_0402_1005N (Chip Resistor, Body 1.1x0.5mm, IPC Medium Density)
pins: 1, 2

## RC0402FR-074M43L
designator R?, comment 4,43M
RC0402FR-074M43L 0402 4.43 MOhm ±1% 1/16W 0402 SMD -55C...+155C; Manufacturer: Yageo; BOM2: 4,43 МОм ±1%, 1/16 Вт, SMD 0402, RC0402FR-074M43L; ValueBOM: RC0402FR-074M43L   Yageo                            (4,43 МОм ±1%, 1/16 Вт, SMD 0402, RC0402FR-074M43L); Value: 4,43M; Part Number: RC0402FR-074M43L; Package: 0402; BOM1: 4.43 MOhm ±1% 1/16W 0402 SMD
footprint RESC_0402_1005L (Chip Resistor, Body 1.1x0.5mm, IPC High Density)
footprint RESC_0402_1005M (Chip Resistor, Body 1.1x0.5mm, IPC Low Density)
footprint RESC_0402_1005N (Chip Resistor, Body 1.1x0.5mm, IPC Medium Density)
pins: 1, 2

## RC0402FR-074M54L
designator R?, comment 4,54M
RC0402FR-074M54L 0402 4.54 MOhm ±1% 1/16W 0402 SMD -55C...+155C; Manufacturer: Yageo; BOM2: 4,54 МОм ±1%, 1/16 Вт, SMD 0402, RC0402FR-074M54L; ValueBOM: RC0402FR-074M54L   Yageo                            (4,54 МОм ±1%, 1/16 Вт, SMD 0402, RC0402FR-074M54L); Value: 4,54M; Part Number: RC0402FR-074M54L; Package: 0402; BOM1: 4.54 MOhm ±1% 1/16W 0402 SMD
footprint RESC_0402_1005L (Chip Resistor, Body 1.1x0.5mm, IPC High Density)
footprint RESC_0402_1005M (Chip Resistor, Body 1.1x0.5mm, IPC Low Density)
footprint RESC_0402_1005N (Chip Resistor, Body 1.1x0.5mm, IPC Medium Density)
pins: 1, 2

## RC0402FR-074M65L
designator R?, comment 4,65M
RC0402FR-074M65L 0402 4.65 MOhm ±1% 1/16W 0402 SMD -55C...+155C; Manufacturer: Yageo; BOM2: 4,65 МОм ±1%, 1/16 Вт, SMD 0402, RC0402FR-074M65L; ValueBOM: RC0402FR-074M65L   Yageo                            (4,65 МОм ±1%, 1/16 Вт, SMD 0402, RC0402FR-074M65L); Value: 4,65M; Part Number: RC0402FR-074M65L; Package: 0402; BOM1: 4.65 MOhm ±1% 1/16W 0402 SMD
footprint RESC_0402_1005L (Chip Resistor, Body 1.1x0.5mm, IPC High Density)
footprint RESC_0402_1005M (Chip Resistor, Body 1.1x0.5mm, IPC Low Density)
footprint RESC_0402_1005N (Chip Resistor, Body 1.1x0.5mm, IPC Medium Density)
pins: 1, 2

## RC0402FR-074M76L
designator R?, comment 4,76M
RC0402FR-074M76L 0402 4.76 MOhm ±1% 1/16W 0402 SMD -55C...+155C; Manufacturer: Yageo; BOM2: 4,76 МОм ±1%, 1/16 Вт, SMD 0402, RC0402FR-074M76L; ValueBOM: RC0402FR-074M76L   Yageo                            (4,76 МОм ±1%, 1/16 Вт, SMD 0402, RC0402FR-074M76L); Value: 4,76M; Part Number: RC0402FR-074M76L; Package: 0402; BOM1: 4.76 MOhm ±1% 1/16W 0402 SMD
footprint RESC_0402_1005L (Chip Resistor, Body 1.1x0.5mm, IPC High Density)
footprint RESC_0402_1005M (Chip Resistor, Body 1.1x0.5mm, IPC Low Density)
footprint RESC_0402_1005N (Chip Resistor, Body 1.1x0.5mm, IPC Medium Density)
pins: 1, 2

## RC0402FR-074M88L
designator R?, comment 4,88M
RC0402FR-074M88L 0402 4.88 MOhm ±1% 1/16W 0402 SMD -55C...+155C; Manufacturer: Yageo; BOM2: 4,88 МОм ±1%, 1/16 Вт, SMD 0402, RC0402FR-074M88L; ValueBOM: RC0402FR-074M88L   Yageo                            (4,88 МОм ±1%, 1/16 Вт, SMD 0402, RC0402FR-074M88L); Value: 4,88M; Part Number: RC0402FR-074M88L; Package: 0402; BOM1: 4.88 MOhm ±1% 1/16W 0402 SMD
footprint RESC_0402_1005L (Chip Resistor, Body 1.1x0.5mm, IPC High Density)
footprint RESC_0402_1005M (Chip Resistor, Body 1.1x0.5mm, IPC Low Density)
footprint RESC_0402_1005N (Chip Resistor, Body 1.1x0.5mm, IPC Medium Density)
pins: 1, 2

## RC0402FR-075K5L
designator R?, comment 5,5k
RC0402FR-075K5L 0402 5.5 kOhm ±1% 1/16W 0402 SMD -55C...+155C; Manufacturer: Yageo; BOM2: 5,5 кОм ±1%, 1/16 Вт, SMD 0402, RC0402FR-075K5L; ValueBOM: RC0402FR-075K5L   Yageo                            (5,5 кОм ±1%, 1/16 Вт, SMD 0402, RC0402FR-075K5L); Value: 5,5k; Part Number: RC0402FR-075K5L; Package: 0402; BOM1: 5.5 kOhm ±1% 1/16W 0402 SMD
footprint RESC_0402_1005L (Chip Resistor, Body 1.1x0.5mm, IPC High Density)
footprint RESC_0402_1005M (Chip Resistor, Body 1.1x0.5mm, IPC Low Density)
footprint RESC_0402_1005N (Chip Resistor, Body 1.1x0.5mm, IPC Medium Density)
pins: 1, 2

## RC0402FR-075K12L
designator R?, comment 5,12k
RC0402FR-075K12L 0402 5.12 kOhm ±1% 1/16W 0402 SMD -55C...+155C; Manufacturer: Yageo; BOM2: 5,12 кОм ±1%, 1/16 Вт, SMD 0402, RC0402FR-075K12L; ValueBOM: RC0402FR-075K12L   Yageo                            (5,12 кОм ±1%, 1/16 Вт, SMD 0402, RC0402FR-075K12L); Value: 5,12k; Part Number: RC0402FR-075K12L; Package: 0402; BOM1: 5.12 kOhm ±1% 1/16W 0402 SMD
footprint RESC_0402_1005L (Chip Resistor, Body 1.1x0.5mm, IPC High Density)
footprint RESC_0402_1005M (Chip Resistor, Body 1.1x0.5mm, IPC Low Density)
footprint RESC_0402_1005N (Chip Resistor, Body 1.1x0.5mm, IPC Medium Density)
pins: 1, 2

## RC0402FR-075K24L
designator R?, comment 5,24k
RC0402FR-075K24L 0402 5.24 kOhm ±1% 1/16W 0402 SMD -55C...+155C; Manufacturer: Yageo; BOM2: 5,24 кОм ±1%, 1/16 Вт, SMD 0402, RC0402FR-075K24L; ValueBOM: RC0402FR-075K24L   Yageo                            (5,24 кОм ±1%, 1/16 Вт, SMD 0402, RC0402FR-075K24L); Value: 5,24k; Part Number: RC0402FR-075K24L; Package: 0402; BOM1: 5.24 kOhm ±1% 1/16W 0402 SMD
footprint RESC_0402_1005L (Chip Resistor, Body 1.1x0.5mm, IPC High Density)
footprint RESC_0402_1005M (Chip Resistor, Body 1.1x0.5mm, IPC Low Density)
footprint RESC_0402_1005N (Chip Resistor, Body 1.1x0.5mm, IPC Medium Density)
pins: 1, 2

## RC0402FR-075K37L
designator R?, comment 5,37k
RC0402FR-075K37L 0402 5.37 kOhm ±1% 1/16W 0402 SMD -55C...+155C; Manufacturer: Yageo; BOM2: 5,37 кОм ±1%, 1/16 Вт, SMD 0402, RC0402FR-075K37L; ValueBOM: RC0402FR-075K37L   Yageo                            (5,37 кОм ±1%, 1/16 Вт, SMD 0402, RC0402FR-075K37L); Value: 5,37k; Part Number: RC0402FR-075K37L; Package: 0402; BOM1: 5.37 kOhm ±1% 1/16W 0402 SMD
footprint RESC_0402_1005L (Chip Resistor, Body 1.1x0.5mm, IPC High Density)
footprint RESC_0402_1005M (Chip Resistor, Body 1.1x0.5mm, IPC Low Density)
footprint RESC_0402_1005N (Chip Resistor, Body 1.1x0.5mm, IPC Medium Density)
pins: 1, 2

## RC0402FR-075K63L
designator R?, comment 5,63k
RC0402FR-075K63L 0402 5.63 kOhm ±1% 1/16W 0402 SMD -55C...+155C; Manufacturer: Yageo; BOM2: 5,63 кОм ±1%, 1/16 Вт, SMD 0402, RC0402FR-075K63L; ValueBOM: RC0402FR-075K63L   Yageo                            (5,63 кОм ±1%, 1/16 Вт, SMD 0402, RC0402FR-075K63L); Value: 5,63k; Part Number: RC0402FR-075K63L; Package: 0402; BOM1: 5.63 kOhm ±1% 1/16W 0402 SMD
footprint RESC_0402_1005L (Chip Resistor, Body 1.1x0.5mm, IPC High Density)
footprint RESC_0402_1005M (Chip Resistor, Body 1.1x0.5mm, IPC Low Density)
footprint RESC_0402_1005N (Chip Resistor, Body 1.1x0.5mm, IPC Medium Density)
pins: 1, 2

## RC0402FR-075K77L
designator R?, comment 5,77k
RC0402FR-075K77L 0402 5.77 kOhm ±1% 1/16W 0402 SMD -55C...+155C; Manufacturer: Yageo; BOM2: 5,77 кОм ±1%, 1/16 Вт, SMD 0402, RC0402FR-075K77L; ValueBOM: RC0402FR-075K77L   Yageo                            (5,77 кОм ±1%, 1/16 Вт, SMD 0402, RC0402FR-075K77L); Value: 5,77k; Part Number: RC0402FR-075K77L; Package: 0402; BOM1: 5.77 kOhm ±1% 1/16W 0402 SMD
footprint RESC_0402_1005L (Chip Resistor, Body 1.1x0.5mm, IPC High Density)
footprint RESC_0402_1005M (Chip Resistor, Body 1.1x0.5mm, IPC Low Density)
footprint RESC_0402_1005N (Chip Resistor, Body 1.1x0.5mm, IPC Medium Density)
pins: 1, 2

## RC0402FR-075K91L
designator R?, comment 5,91k
RC0402FR-075K91L 0402 5.91 kOhm ±1% 1/16W 0402 SMD -55C...+155C; Manufacturer: Yageo; BOM2: 5,91 кОм ±1%, 1/16 Вт, SMD 0402, RC0402FR-075K91L; ValueBOM: RC0402FR-075K91L   Yageo                            (5,91 кОм ±1%, 1/16 Вт, SMD 0402, RC0402FR-075K91L); Value: 5,91k; Part Number: RC0402FR-075K91L; Package: 0402; BOM1: 5.91 kOhm ±1% 1/16W 0402 SMD
footprint RESC_0402_1005L (Chip Resistor, Body 1.1x0.5mm, IPC High Density)
footprint RESC_0402_1005M (Chip Resistor, Body 1.1x0.5mm, IPC Low Density)
footprint RESC_0402_1005N (Chip Resistor, Body 1.1x0.5mm, IPC Medium Density)
pins: 1, 2

## RC0402FR-075KL
designator R?, comment 5k
RC0402FR-075KL 0402 5 kOhm ±1% 1/16W 0402 SMD -55C...+155C; Manufacturer: Yageo; BOM2: 5 кОм ±1%, 1/16 Вт, SMD 0402, RC0402FR-075KL; ValueBOM: RC0402FR-075KL   Yageo                            (5 кОм ±1%, 1/16 Вт, SMD 0402, RC0402FR-075KL); Value: 5k; Part Number: RC0402FR-075KL; Package: 0402; BOM1: 5 kOhm ±1% 1/16W 0402 SMD
footprint RESC_0402_1005L (Chip Resistor, Body 1.1x0.5mm, IPC High Density)
footprint RESC_0402_1005M (Chip Resistor, Body 1.1x0.5mm, IPC Low Density)
footprint RESC_0402_1005N (Chip Resistor, Body 1.1x0.5mm, IPC Medium Density)
pins: 1, 2

## RC0402FR-075M5L
designator R?, comment 5,5M
RC0402FR-075M5L 0402 5.5 MOhm ±1% 1/16W 0402 SMD -55C...+155C; Manufacturer: Yageo; BOM2: 5,5 МОм ±1%, 1/16 Вт, SMD 0402, RC0402FR-075M5L; ValueBOM: RC0402FR-075M5L   Yageo                            (5,5 МОм ±1%, 1/16 Вт, SMD 0402, RC0402FR-075M5L); Value: 5,5M; Part Number: RC0402FR-075M5L; Package: 0402; BOM1: 5.5 MOhm ±1% 1/16W 0402 SMD
footprint RESC_0402_1005L (Chip Resistor, Body 1.1x0.5mm, IPC High Density)
footprint RESC_0402_1005M (Chip Resistor, Body 1.1x0.5mm, IPC Low Density)
footprint RESC_0402_1005N (Chip Resistor, Body 1.1x0.5mm, IPC Medium Density)
pins: 1, 2

## RC0402FR-075M12L
designator R?, comment 5,12M
RC0402FR-075M12L 0402 5.12 MOhm ±1% 1/16W 0402 SMD -55C...+155C; Manufacturer: Yageo; BOM2: 5,12 МОм ±1%, 1/16 Вт, SMD 0402, RC0402FR-075M12L; ValueBOM: RC0402FR-075M12L   Yageo                            (5,12 МОм ±1%, 1/16 Вт, SMD 0402, RC0402FR-075M12L); Value: 5,12M; Part Number: RC0402FR-075M12L; Package: 0402; BOM1: 5.12 MOhm ±1% 1/16W 0402 SMD
footprint RESC_0402_1005L (Chip Resistor, Body 1.1x0.5mm, IPC High Density)
footprint RESC_0402_1005M (Chip Resistor, Body 1.1x0.5mm, IPC Low Density)
footprint RESC_0402_1005N (Chip Resistor, Body 1.1x0.5mm, IPC Medium Density)
pins: 1, 2

## RC0402FR-075M24L
designator R?, comment 5,24M
RC0402FR-075M24L 0402 5.24 MOhm ±1% 1/16W 0402 SMD -55C...+155C; Manufacturer: Yageo; BOM2: 5,24 МОм ±1%, 1/16 Вт, SMD 0402, RC0402FR-075M24L; ValueBOM: RC0402FR-075M24L   Yageo                            (5,24 МОм ±1%, 1/16 Вт, SMD 0402, RC0402FR-075M24L); Value: 5,24M; Part Number: RC0402FR-075M24L; Package: 0402; BOM1: 5.24 MOhm ±1% 1/16W 0402 SMD
footprint RESC_0402_1005L (Chip Resistor, Body 1.1x0.5mm, IPC High Density)
footprint RESC_0402_1005M (Chip Resistor, Body 1.1x0.5mm, IPC Low Density)
footprint RESC_0402_1005N (Chip Resistor, Body 1.1x0.5mm, IPC Medium Density)
pins: 1, 2

## RC0402FR-075M37L
designator R?, comment 5,37M
RC0402FR-075M37L 0402 5.37 MOhm ±1% 1/16W 0402 SMD -55C...+155C; Manufacturer: Yageo; BOM2: 5,37 МОм ±1%, 1/16 Вт, SMD 0402, RC0402FR-075M37L; ValueBOM: RC0402FR-075M37L   Yageo                            (5,37 МОм ±1%, 1/16 Вт, SMD 0402, RC0402FR-075M37L); Value: 5,37M; Part Number: RC0402FR-075M37L; Package: 0402; BOM1: 5.37 MOhm ±1% 1/16W 0402 SMD
footprint RESC_0402_1005L (Chip Resistor, Body 1.1x0.5mm, IPC High Density)
footprint RESC_0402_1005M (Chip Resistor, Body 1.1x0.5mm, IPC Low Density)
footprint RESC_0402_1005N (Chip Resistor, Body 1.1x0.5mm, IPC Medium Density)
pins: 1, 2

## RC0402FR-075M63L
designator R?, comment 5,63M
RC0402FR-075M63L 0402 5.63 MOhm ±1% 1/16W 0402 SMD -55C...+155C; Manufacturer: Yageo; BOM2: 5,63 МОм ±1%, 1/16 Вт, SMD 0402, RC0402FR-075M63L; ValueBOM: RC0402FR-075M63L   Yageo                            (5,63 МОм ±1%, 1/16 Вт, SMD 0402, RC0402FR-075M63L); Value: 5,63M; Part Number: RC0402FR-075M63L; Package: 0402; BOM1: 5.63 MOhm ±1% 1/16W 0402 SMD
footprint RESC_0402_1005L (Chip Resistor, Body 1.1x0.5mm, IPC High Density)
footprint RESC_0402_1005M (Chip Resistor, Body 1.1x0.5mm, IPC Low Density)
footprint RESC_0402_1005N (Chip Resistor, Body 1.1x0.5mm, IPC Medium Density)
pins: 1, 2

## RC0402FR-075M77L
designator R?, comment 5,77M
RC0402FR-075M77L 0402 5.77 MOhm ±1% 1/16W 0402 SMD -55C...+155C; Manufacturer: Yageo; BOM2: 5,77 МОм ±1%, 1/16 Вт, SMD 0402, RC0402FR-075M77L; ValueBOM: RC0402FR-075M77L   Yageo                            (5,77 МОм ±1%, 1/16 Вт, SMD 0402, RC0402FR-075M77L); Value: 5,77M; Part Number: RC0402FR-075M77L; Package: 0402; BOM1: 5.77 MOhm ±1% 1/16W 0402 SMD
footprint RESC_0402_1005L (Chip Resistor, Body 1.1x0.5mm, IPC High Density)
footprint RESC_0402_1005M (Chip Resistor, Body 1.1x0.5mm, IPC Low Density)
footprint RESC_0402_1005N (Chip Resistor, Body 1.1x0.5mm, IPC Medium Density)
pins: 1, 2

## RC0402FR-075M91L
designator R?, comment 5,91M
RC0402FR-075M91L 0402 5.91 MOhm ±1% 1/16W 0402 SMD -55C...+155C; Manufacturer: Yageo; BOM2: 5,91 МОм ±1%, 1/16 Вт, SMD 0402, RC0402FR-075M91L; ValueBOM: RC0402FR-075M91L   Yageo                            (5,91 МОм ±1%, 1/16 Вт, SMD 0402, RC0402FR-075M91L); Value: 5,91M; Part Number: RC0402FR-075M91L; Package: 0402; BOM1: 5.91 MOhm ±1% 1/16W 0402 SMD
footprint RESC_0402_1005L (Chip Resistor, Body 1.1x0.5mm, IPC High Density)
footprint RESC_0402_1005M (Chip Resistor, Body 1.1x0.5mm, IPC Low Density)
footprint RESC_0402_1005N (Chip Resistor, Body 1.1x0.5mm, IPC Medium Density)
pins: 1, 2

## RC0402FR-075ML
designator R?, comment 5M
RC0402FR-075ML 0402 5 MOhm ±1% 1/16W 0402 SMD -55C...+155C; Manufacturer: Yageo; BOM2: 5 MОм ±1%, 1/16 Вт, SMD 0402, RC0402FR-075ML; ValueBOM: RC0402FR-075ML   Yageo                            (5 MОм ±1%, 1/16 Вт, SMD 0402, RC0402FR-075ML); Value: 5M; Part Number: RC0402FR-075ML; Package: 0402; BOM1: 5 MOhm ±1% 1/16W 0402 SMD
footprint RESC_0402_1005L (Chip Resistor, Body 1.1x0.5mm, IPC High Density)
footprint RESC_0402_1005M (Chip Resistor, Body 1.1x0.5mm, IPC Low Density)
footprint RESC_0402_1005N (Chip Resistor, Body 1.1x0.5mm, IPC Medium Density)
pins: 1, 2

## RC0402FR-076K05L
designator R?, comment 6,05k
RC0402FR-076K05L 0402 6.05 kOhm ±1% 1/16W 0402 SMD -55C...+155C; Manufacturer: Yageo; BOM2: 6,05 кОм ±1%, 1/16 Вт, SMD 0402, RC0402FR-076K05L; ValueBOM: RC0402FR-076K05L   Yageo                            (6,05 кОм ±1%, 1/16 Вт, SMD 0402, RC0402FR-076K05L); Value: 6,05k; Part Number: RC0402FR-076K05L; Package: 0402; BOM1: 6.05 kOhm ±1% 1/16W 0402 SMD
footprint RESC_0402_1005L (Chip Resistor, Body 1.1x0.5mm, IPC High Density)
footprint RESC_0402_1005M (Chip Resistor, Body 1.1x0.5mm, IPC Low Density)
footprint RESC_0402_1005N (Chip Resistor, Body 1.1x0.5mm, IPC Medium Density)
pins: 1, 2

## RC0402FR-076K19L
designator R?, comment 6,19k
RC0402FR-076K19L 0402 6.19 kOhm ±1% 1/16W 0402 SMD -55C...+155C; Manufacturer: Yageo; BOM2: 6,19 кОм ±1%, 1/16 Вт, SMD 0402, RC0402FR-076K19L; ValueBOM: RC0402FR-076K19L   Yageo                            (6,19 кОм ±1%, 1/16 Вт, SMD 0402, RC0402FR-076K19L); Value: 6,19k; Part Number: RC0402FR-076K19L; Package: 0402; BOM1: 6.19 kOhm ±1% 1/16W 0402 SMD
footprint RESC_0402_1005L (Chip Resistor, Body 1.1x0.5mm, IPC High Density)
footprint RESC_0402_1005M (Chip Resistor, Body 1.1x0.5mm, IPC Low Density)
footprint RESC_0402_1005N (Chip Resistor, Body 1.1x0.5mm, IPC Medium Density)
pins: 1, 2

## RC0402FR-076K34L
designator R?, comment 6,34k
RC0402FR-076K34L 0402 6.34 kOhm ±1% 1/16W 0402 SMD -55C...+155C; Manufacturer: Yageo; BOM2: 6,34 кОм ±1%, 1/16 Вт, SMD 0402, RC0402FR-076K34L; ValueBOM: RC0402FR-076K34L   Yageo                            (6,34 кОм ±1%, 1/16 Вт, SMD 0402, RC0402FR-076K34L); Value: 6,34k; Part Number: RC0402FR-076K34L; Package: 0402; BOM1: 6.34 kOhm ±1% 1/16W 0402 SMD
footprint RESC_0402_1005L (Chip Resistor, Body 1.1x0.5mm, IPC High Density)
footprint RESC_0402_1005M (Chip Resistor, Body 1.1x0.5mm, IPC Low Density)
footprint RESC_0402_1005N (Chip Resistor, Body 1.1x0.5mm, IPC Medium Density)
pins: 1, 2